# Altium footprint library Harry_Potter_IC.PcbLib: 7 footprints
Each footprint in its own frame and in the unit in brackets; x right, y up, seen from the top. Pads: shape width x height; smd on the part's side, far side on the other; paste and mask are expansions set on the pad; w line width, h text height; cw(c..) or ccw(c..) is an arc to the next point about the centre after c.
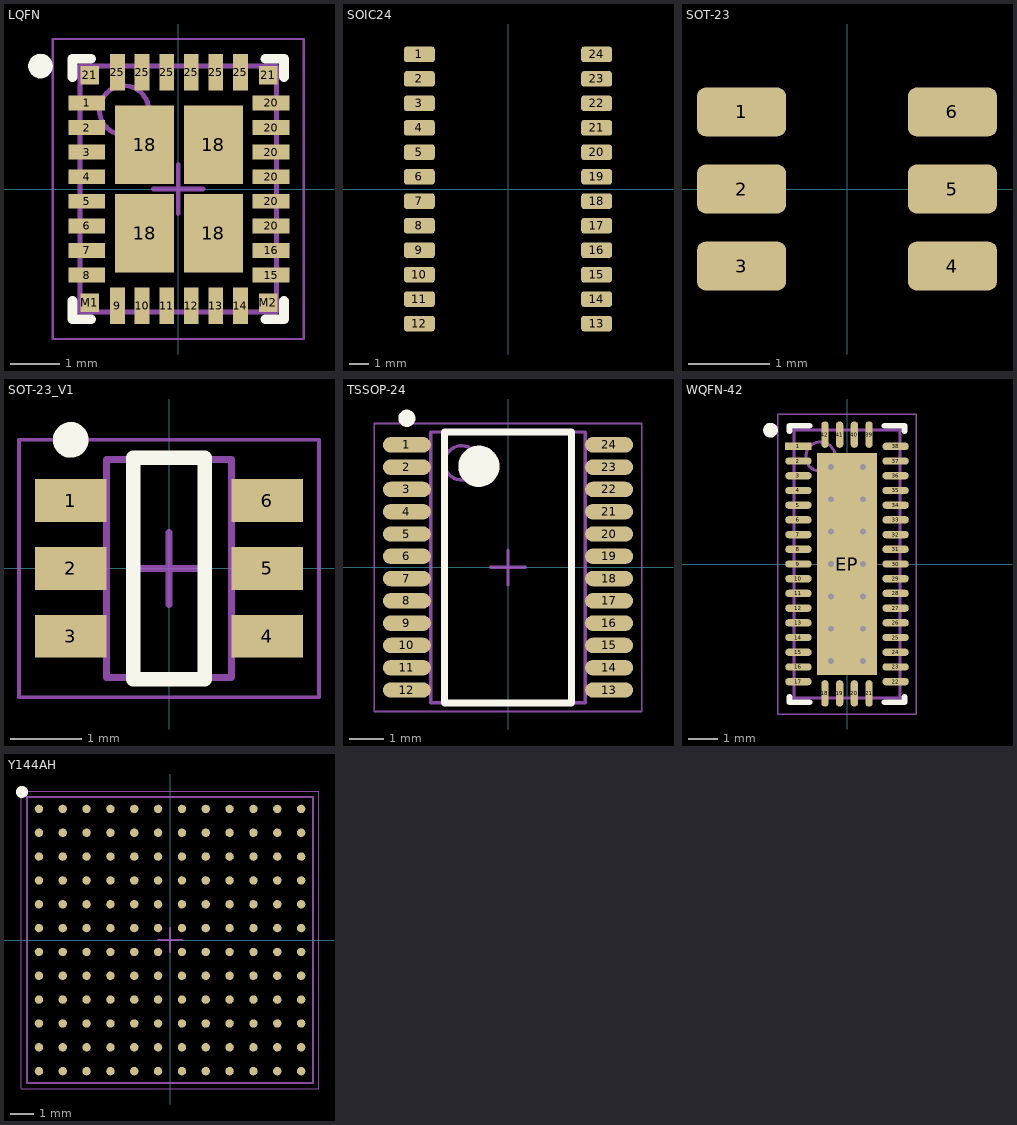
[diagram p0: the footprints below, top view; thin cyan lines are the x and y axes]

## LQFN [mm] "QFN, 28-Leads, Body 2,00x2,50mm, Pitch 0,50mm, Thermal Pad 3,35x2,55mm, IPC Medium Density"
height 0.83
pads (36):
  rect 0.75x0.3 smd mask+0.075: 1(-1.86,1.75) 2(-1.86,1.25) 3(-1.86,0.75) 4(-1.86,0.25) 5(-1.86,-0.25) 6(-1.86,-0.75) 7(-1.86,-1.25) 8(-1.86,-1.75) 15(1.89,-1.75) 16(1.89,-1.25) 20(1.89,-0.75) 20(1.89,-0.25) 20(1.89,0.25) 20(1.89,0.75) 20(1.89,1.25) 20(1.89,1.75)
  rect 0.3x0.75 smd mask+0.075: 9(-1.235,-2.375) 10(-0.735,-2.375) 11(-0.235,-2.375) 12(0.265,-2.375) 13(0.765,-2.375) 14(1.265,-2.375) 25(-1.235,2.375) 25(-0.735,2.375) 25(-0.235,2.375) 25(0.265,2.375) 25(0.765,2.375) 25(1.265,2.375)
  rect 1.2x1.6 smd mask+0.075: 18(-0.685,-0.9) 18(-0.685,0.9) 18(0.715,-0.9) 18(0.715,0.9)
  rect 0.375x0.375 smd: 21(-1.797,2.312) 21(1.828,2.312) M1(-1.797,-2.312) M2(1.828,-2.312)
Top Overlay:
  circle w0.25: c-2.8,2.5 r0.125
  lines w0.2: -2.15,-2.275 -2.15,-2.65 -1.775,-2.65 ; -2.15,2.275 -2.15,2.65 -1.775,2.65 ; 1.775,-2.65 2.15,-2.65 2.15,-2.275 ; 1.775,2.65 2.15,2.65 2.15,2.275
Mechanical 13:
  circle w0.1: c-1.1,1.6 r0.5
  lines w0.1: -2,-2.5 -2,2.5 2,2.5 2,-2.5 -2,-2.5
Mechanical 15:
  lines w0.05: -2.55,-3.05 -2.55,3.05 2.55,3.05 2.55,-3.05 -2.55,-3.05
  lines w0.1: -0.5,0 0.5,0 ; 0,-0.5 0,0.5
3D body "LQFN.step": height 0.83, standoff 0, extent -2.24,-2.74 2.24,2.74

## SOIC24 [mm]
pads (24):
  rrect35% 1.6x0.8 smd mask+0.075: 1(-4.6,6.985) 2(-4.6,5.715) 3(-4.6,4.445) 4(-4.6,3.175) 5(-4.6,1.905) 6(-4.6,0.635) 7(-4.6,-0.635) 8(-4.6,-1.905) 9(-4.6,-3.175) 10(-4.6,-4.445) 11(-4.6,-5.715) 12(-4.6,-6.985) 13(4.6,-6.985) 14(4.6,-5.715) 15(4.6,-4.445) 16(4.6,-3.175) 17(4.6,-1.905) 18(4.6,-0.635) 19(4.6,0.635) 20(4.6,1.905) 21(4.6,3.175) 22(4.6,4.445) 23(4.6,5.715) 24(4.6,6.985)

## SOT-23 [mm]
pads (6):
  rrect35% 1.1x0.6 smd mask+0.075: 1(-1.3,0.95) 2(-1.3,0) 3(-1.3,-0.95) 4(1.3,-0.95) 5(1.3,0) 6(1.3,0.95)

## SOT-23_V1 [mm] "SOT23, 6-Leads, Body 2,90x2,80mm, Pitch 0,95mm, IPC Medium Density"
height 1.1
pads (6):
  rect 1x0.6 smd: 1(-1.375,0.95) 2(-1.375,0) 3(-1.375,-0.95) 4(1.375,-0.95) 5(1.375,0) 6(1.375,0.95)
Top Overlay:
  circle w0.25: c-1.375,1.8 r0.125
  lines w0.2: -0.5,-1.55 -0.5,1.55 0.5,1.55 0.5,-1.55 -0.5,-1.55
Mechanical 13:
  lines w0.1: -0.875,-1.525 0.875,-1.525 0.875,1.525 -0.875,1.525 -0.875,-1.525
Mechanical 15:
  lines w0.05: -2.1,-1.8 2.1,-1.8 2.1,1.8 -2.1,1.8 -2.1,-1.8
  lines w0.1: -0.5,0 0.5,0 ; 0,-0.5 0,0.5
3D body "SOT-23_V1.step": height 1.1, standoff 0, extent -1.5,-1.525 1.5,1.525

## TSSOP-24 [mm] "TSOP, 24-Leads, Body 7,80x4,40mm, Pitch 0,65mm, IPC Medium Density"
height 1.2
pads (24):
  oval 1.4x0.45 smd: 1(-2.95,3.575) 2(-2.95,2.925) 3(-2.95,2.275) 4(-2.95,1.625) 5(-2.95,0.975) 6(-2.95,0.325) 7(-2.95,-0.325) 8(-2.95,-0.975) 9(-2.95,-1.625) 10(-2.95,-2.275) 11(-2.95,-2.925) 12(-2.95,-3.575) 13(2.95,-3.575) 14(2.95,-2.925) 15(2.95,-2.275) 16(2.95,-1.625) 17(2.95,-0.975) 18(2.95,-0.325) 19(2.95,0.325) 20(2.95,0.975) 21(2.95,1.625) 22(2.95,2.275) 23(2.95,2.925) 24(2.95,3.575)
Top Overlay:
  circle w0.25: c-2.95,4.35 r0.125
  circle w0.6: c-0.85,2.95 r0.3
  lines w0.2: -1.85,-3.95 -1.85,3.95 1.85,3.95 1.85,-3.95 -1.85,-3.95
Mechanical 13:
  circle w0.1: c-1.35,3.05 r0.5
  lines w0.1: -2.25,-3.95 -2.25,3.95 2.25,3.95 2.25,-3.95 -2.25,-3.95
Mechanical 15:
  lines w0.05: -3.9,-4.2 -3.9,4.2 3.9,4.2 3.9,-4.2 -3.9,-4.2
  lines w0.1: -0.5,0 0.5,0 ; 0,-0.5 0,0.5
3D body "TSSOP-24.step": height 1.2, standoff 0, extent -3.2,-3.95 3.2,3.95

## WQFN-42 [mm] "QFN, 42-Leads, Body 3,50x9,00mm, Pitch 0,50mm, Thermal Pad 2,05x7,55mm, IPC Medium Density"
height 0.8
pads (43):
  rect 0.9x0.25 smd: 1(-1.65,4)
  oval 0.9x0.25 smd: 2(-1.65,3.5) 3(-1.65,3) 4(-1.65,2.5) 5(-1.65,2) 6(-1.65,1.5) 7(-1.65,1) 8(-1.65,0.5) 9(-1.65,0) 10(-1.65,-0.5) 11(-1.65,-1) 12(-1.65,-1.5) 13(-1.65,-2) 14(-1.65,-2.5) 15(-1.65,-3) 16(-1.65,-3.5) 17(-1.65,-4) 22(1.65,-4) 23(1.65,-3.5) 24(1.65,-3) 25(1.65,-2.5) 26(1.65,-2) 27(1.65,-1.5) 28(1.65,-1) 29(1.65,-0.5) 30(1.65,0) 31(1.65,0.5) 32(1.65,1) 33(1.65,1.5) 34(1.65,2) 35(1.65,2.5) 36(1.65,3) 37(1.65,3.5) 38(1.65,4)
  oval 0.25x0.9 smd: 18(-0.75,-4.4) 19(-0.25,-4.4) 20(0.25,-4.4) 21(0.75,-4.4) 39(0.75,4.4) 40(0.25,4.4) 41(-0.25,4.4) 42(-0.75,4.4)
  rect 2.05x7.55 smd: EP(0,0)
via 0.55,-3.3 diameter 0.5 hole 0.2
via -0.55,-3.3 diameter 0.5 hole 0.2
via 0.55,-2.2 diameter 0.5 hole 0.2
via -0.55,-2.2 diameter 0.5 hole 0.2
via 0.55,-1.1 diameter 0.5 hole 0.2
via -0.55,-1.1 diameter 0.5 hole 0.2
via 0.55,0 diameter 0.5 hole 0.2
via -0.55,0 diameter 0.5 hole 0.2
via 0.55,1.1 diameter 0.5 hole 0.2
via -0.55,1.1 diameter 0.5 hole 0.2
via 0.55,2.2 diameter 0.5 hole 0.2
via -0.55,2.2 diameter 0.5 hole 0.2
via 0.55,3.3 diameter 0.5 hole 0.2
via -0.55,3.3 diameter 0.5 hole 0.2
Top Overlay:
  circle w0.25: c-2.6,4.55 r0.125
  lines w0.2: -1.95,-4.525 -1.95,-4.7 -1.275,-4.7 ; -1.95,4.525 -1.95,4.7 -1.275,4.7 ; 1.275,-4.7 1.95,-4.7 1.95,-4.525 ; 1.275,4.7 1.95,4.7 1.95,4.525
Mechanical 13:
  circle w0.1: c-0.9,3.65 r0.5
  lines w0.1: -1.8,-4.55 1.8,-4.55 1.8,4.55 -1.8,4.55 -1.8,-4.55
Mechanical 15:
  lines w0.05: -2.35,-5.1 2.35,-5.1 2.35,5.1 -2.35,5.1 -2.35,-5.1
  lines w0.1: -0.5,0 0.5,0 ; 0,-0.5 0,0.5
3D body "WQFN-42.step": height 0.8, standoff 0, extent -1.88,-4.63 1.88,4.63

## Y144AH [mm] "BGA, 144-Leads, Body 12,00x12,00mmx1,34mm, Pitch 1,00mm"
height 1.34
pads (144):
  round 0.35 smd mask+0.075: A1(-5.5,5.5) A2(-4.5,5.5) A3(-3.5,5.5) A4(-2.5,5.5) A5(-1.5,5.5) A6(-0.5,5.5) A7(0.5,5.5) A8(1.5,5.5) A9(2.5,5.5) A10(3.5,5.5) A11(4.5,5.5) A12(5.5,5.5) B1(-5.5,4.5) B2(-4.5,4.5) B3(-3.5,4.5) B4(-2.5,4.5) B5(-1.5,4.5) B6(-0.5,4.5) B7(0.5,4.5) B8(1.5,4.5) B9(2.5,4.5) B10(3.5,4.5) B11(4.5,4.5) B12(5.5,4.5) C1(-5.5,3.5) C2(-4.5,3.5) C3(-3.5,3.5) C4(-2.5,3.5) C5(-1.5,3.5) C6(-0.5,3.5) C7(0.5,3.5) C8(1.5,3.5) C9(2.5,3.5) C10(3.5,3.5) C11(4.5,3.5) C12(5.5,3.5) D1(-5.5,2.5) D2(-4.5,2.5) D3(-3.5,2.5) D4(-2.5,2.5) D5(-1.5,2.5) D6(-0.5,2.5) D7(0.5,2.5) D8(1.5,2.5) D9(2.5,2.5) D10(3.5,2.5) D11(4.5,2.5) D12(5.5,2.5) E1(-5.5,1.5) E2(-4.5,1.5) E3(-3.5,1.5) E4(-2.5,1.5) E5(-1.5,1.5) E6(-0.5,1.5) E7(0.5,1.5) E8(1.5,1.5) E9(2.5,1.5) E10(3.5,1.5) E11(4.5,1.5) E12(5.5,1.5) F1(-5.5,0.5) F2(-4.5,0.5) F3(-3.5,0.5) F4(-2.5,0.5) F5(-1.5,0.5) F6(-0.5,0.5) F7(0.5,0.5) F8(1.5,0.5) F9(2.5,0.5) F10(3.5,0.5) F11(4.5,0.5) F12(5.5,0.5) G1(-5.5,-0.5) G2(-4.5,-0.5) G3(-3.5,-0.5) G4(-2.5,-0.5) G5(-1.5,-0.5) G6(-0.5,-0.5) G7(0.5,-0.5) G8(1.5,-0.5) G9(2.5,-0.5) G10(3.5,-0.5) G11(4.5,-0.5) G12(5.5,-0.5) H1(-5.5,-1.5) H2(-4.5,-1.5) H3(-3.5,-1.5) H4(-2.5,-1.5) H5(-1.5,-1.5) H6(-0.5,-1.5) H7(0.5,-1.5) H8(1.5,-1.5) H9(2.5,-1.5) H10(3.5,-1.5) H11(4.5,-1.5) H12(5.5,-1.5) J1(-5.5,-2.5) J2(-4.5,-2.5) J3(-3.5,-2.5) J4(-2.5,-2.5) J5(-1.5,-2.5) J6(-0.5,-2.5) J7(0.5,-2.5) J8(1.5,-2.5) J9(2.5,-2.5) J10(3.5,-2.5) J11(4.5,-2.5) J12(5.5,-2.5) K1(-5.5,-3.5) K2(-4.5,-3.5) K3(-3.5,-3.5) K4(-2.5,-3.5) K5(-1.5,-3.5) K6(-0.5,-3.5) K7(0.5,-3.5) K8(1.5,-3.5) K9(2.5,-3.5) K10(3.5,-3.5) K11(4.5,-3.5) K12(5.5,-3.5) L1(-5.5,-4.5) L2(-4.5,-4.5) L3(-3.5,-4.5) L4(-2.5,-4.5) L5(-1.5,-4.5) L6(-0.5,-4.5) L7(0.5,-4.5) L8(1.5,-4.5) L9(2.5,-4.5) L10(3.5,-4.5) L11(4.5,-4.5) L12(5.5,-4.5) M1(-5.5,-5.5) M2(-4.5,-5.5) M3(-3.5,-5.5) M4(-2.5,-5.5) M5(-1.5,-5.5) M6(-0.5,-5.5) M7(0.5,-5.5) M8(1.5,-5.5) M9(2.5,-5.5) M10(3.5,-5.5) M11(4.5,-5.5) M12(5.5,-5.5)
Top Overlay:
  circle w0.25: c-6.21,6.21 r0.125
Mechanical 13:
  lines w0.1: -6,-6 6,-6 6,6 -6,6 -6,-6
Mechanical 15:
  lines w0.05: -6.25,-6.25 6.25,-6.25 6.25,6.25 -6.25,6.25 -6.25,-6.25
  lines w0.1: -0.5,0 0.5,0 ; 0,-0.5 0,0.5
3D body "Y144AH_1.step": height 1.34, standoff 0, extent -6,-6 6,6